# EAGLE library part CONNECTOR-6 (library eagle-library-engr-245-s22)
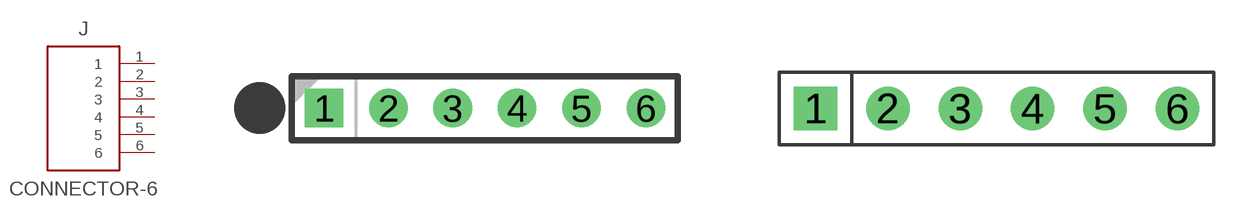
[diagram p8: symbol with the pads of ESQ-106-XX-X-S; footprints ESQ-106-XX-X-S, CONNECTOR_6_100MIL]

Designator prefix J

## CONNECTOR-6_ESQ_1X6  [ESQ-106-XX-X-S]
1  1
2  2
3  3
4  4
5  5
6  6

## CONNECTOR-6100MIL  [CONNECTOR_6_100MIL]
Pads as for ESQ-106-XX-X-S

## CONNECTOR-6-RA  [CONNECTOR_6_01.00_RA]
Pads as for ESQ-106-XX-X-S

## Footprint ESQ-106-XX-X-S (pad centres in mm)
drill 1.016 pad 1.524 square: 1 0,0
drill 1.016 pad 1.524: 2 2.54,0; 3 5.08,0; 4 7.62,0; 5 10.16,0; 6 12.7,0

## Footprint CONNECTOR_6_100MIL (pad centres in mm)
drill 1.016 pad 1.524 square: 1 0,0
drill 1.016 pad 1.524: 2 2.54,0; 3 5.08,0; 4 7.62,0; 5 10.16,0; 6 12.7,0

## Footprint CONNECTOR_6_01.00_RA (pad centres in mm)
drill 1.016 pad 1.524 square: 1 0,0
drill 1.016 pad 1.524: 2 2.54,0; 3 5.08,0; 4 7.62,0; 5 10.16,0; 6 12.7,0